# Altium schematic symbol library Breadboard-Wristwatch.SchLib: 1 symbol
Pins are listed as number, name and electrical type; pins without a type are passive.

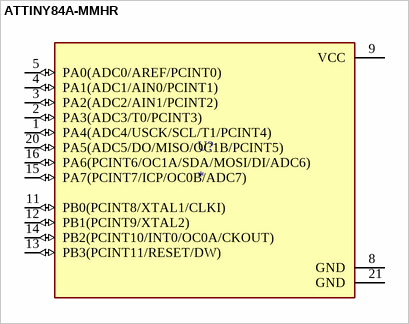
[diagram p0: symbol ATTINY84A-MMHR]

## ATTINY84A-MMHR
designator U?
AVR series Microcontroller IC 8-Bit 20MHz 8KB (4K x 16) FLASH 20-VQFN (3x3); MF: Microchip Technology; MP: ATTINY84A-MMHR; Availability: In Stock; Price: None; Check_prices: https://www.snapeda.com/parts/ATTINY84A-MMHR/Microchip/view-part/?ref=eda; SnapEDA_Link: https://www.snapeda.com/parts/ATTINY84A-MMHR/Microchip/view-part/?ref=snap; Package: DFN-20 Microchip; Purchase-URL: https://pricing.snapeda.com/search/part/ATTINY84A-MMHR/?ref=eda; Value: *
footprint QFN45P300X300X85-21N
pins: 1 PA4(ADC4/USCK/SCL/T1/PCINT4) (io), 2 PA3(ADC3/T0/PCINT3) (io), 3 PA2(ADC2/AIN1/PCINT2) (io), 4 PA1(ADC1/AIN0/PCINT1) (io), 5 PA0(ADC0/AREF/PCINT0) (io), 8 GND (power), 9 VCC (power), 11 PB0(PCINT8/XTAL1/CLKI) (io), 12 PB1(PCINT9/XTAL2) (io), 13 PB3(PCINT11/RESET/DW) (io), 14 PB2(PCINT10/INT0/OC0A/CKOUT) (io), 15 PA7(PCINT7/ICP/OC0B/ADC7) (io), 16 PA6(PCINT6/OC1A/SDA/MOSI/DI/ADC6) (io), 20 PA5(ADC5/DO/MISO/OC1B/PCINT5) (io), 21 GND (power)